# Altium footprint library SparkFun-Electromechanical.PCBLIB: 151 footprints (part 2 of 11)
Each footprint in its own frame and in the unit in brackets; x right, y up, seen from the top. Pads: shape width x height; smd on the part's side, far side on the other; paste and mask are expansions set on the pad; w line width, h text height; cw(c..) or ccw(c..) is an arc to the next point about the centre after c.
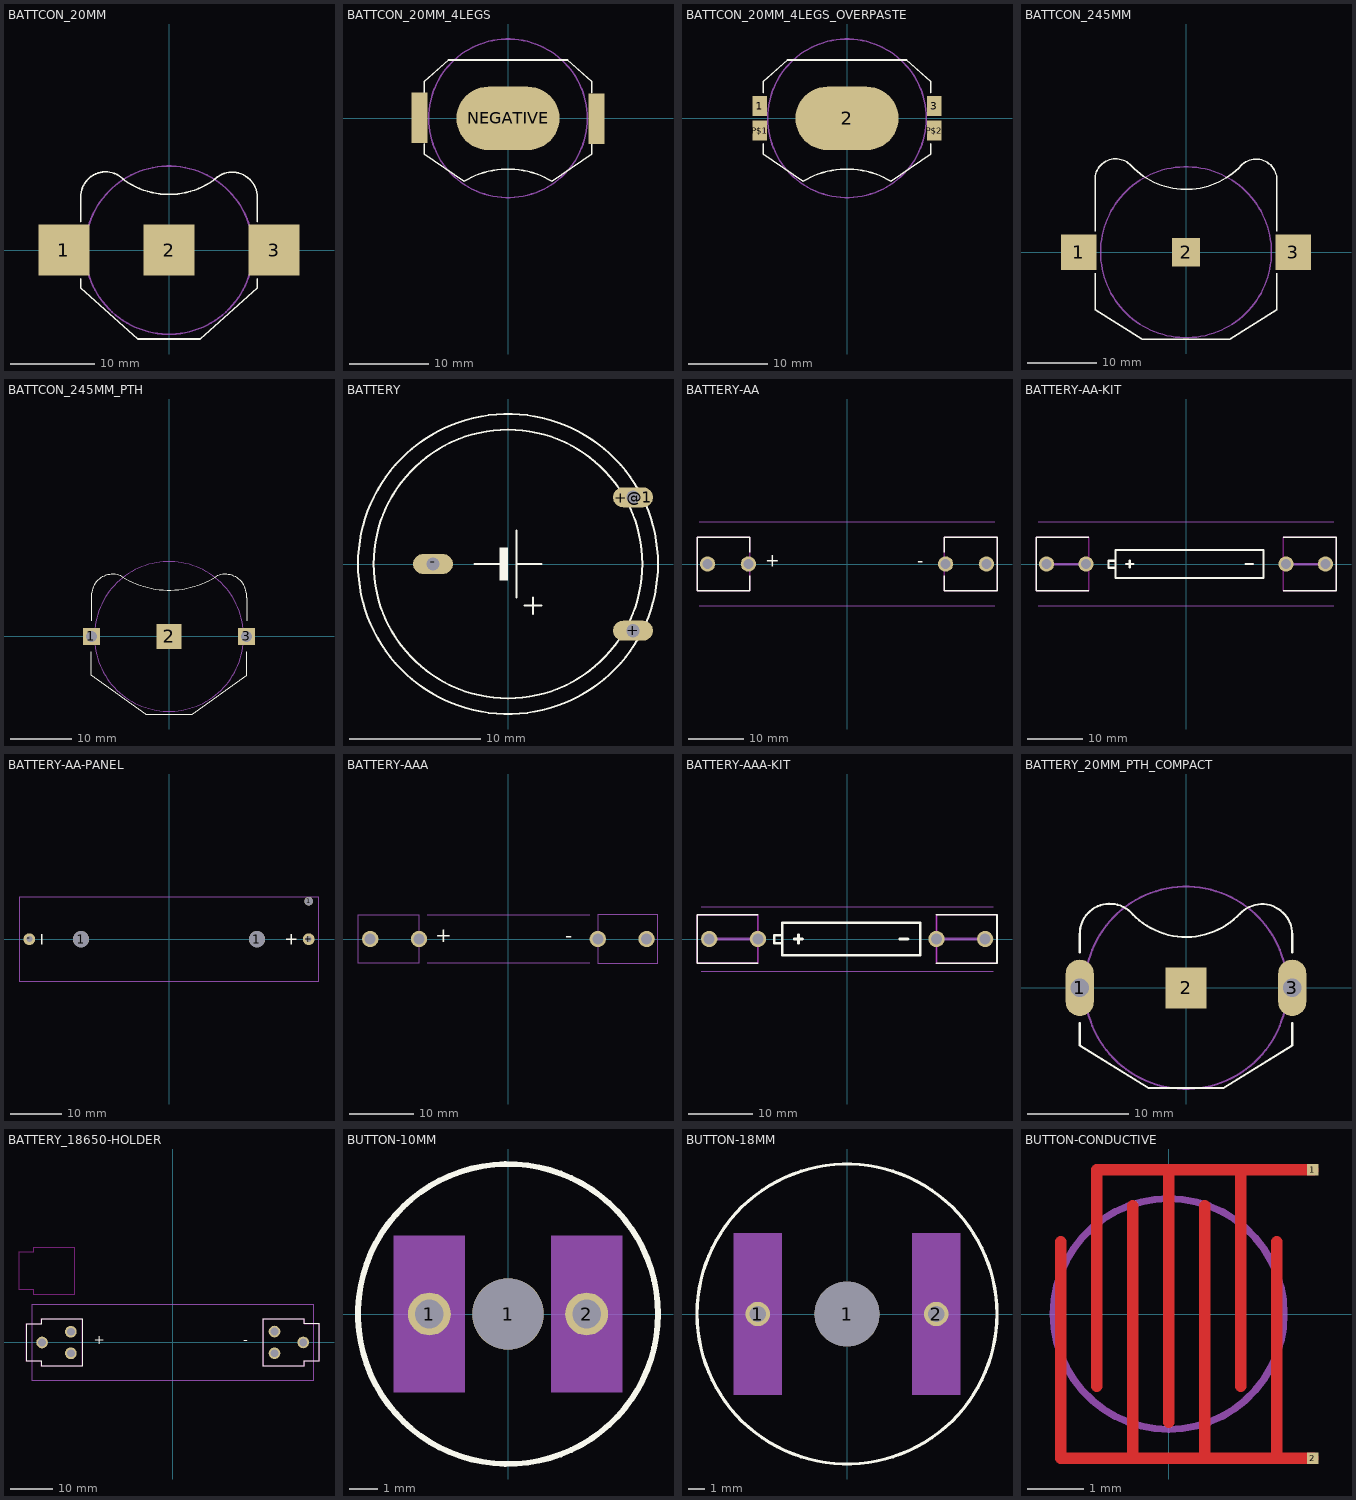
[diagram p1: the footprints below, top view; thin cyan lines are the x and y axes]

## BATTCON_20MM [mil]
pads (3):
  rect 238.98x238.98 smd: 1(-492.13,0) 2(0,0) 3(492.13,0)
Top Overlay:
  lines w8: -413.39,-133.86 -413.39,-177.17 -145.67,-416.14 145.67,-416.14 413.39,-177.17 413.39,-133.86 ; -413.39,133.86 -413.39,248.03 cw(c-296.55,249.77) -208.66,326.77 ccw(c0,624.77) 208.66,326.77 cw(c295.52,247.08) 413.39,248.03 413.39,133.86
Mechanical 16:
  circle w8: c0,0 r393.7

## BATTCON_20MM_4LEGS [mil]
pads (5):
  rrect100% 511.81x314.96 smd: NEGATIVE(0,0)
  rect 80x125 smd: POSITIVE@1(-440,65) POSITIVE@2(-440,-60) POSITIVE@3(440,60) POSITIVE@4(440,-65)
Top Overlay:
  lines w8: -415.35,-125.98 -415.35,-179.13 -218.5,-312.99 cw(c0,-673.66) 218.5,-312.99 415.35,-179.13 415.35,-125.98 ; -415.35,125.98 -415.35,183.07 -295.28,289.37 295.28,289.37 415.35,183.07 415.35,125.98
Top Paste:
  rectangle: -78.74,-78.74 78.74,78.74
  rectangle: -530,-135 -390,145
  rectangle: 390,-140 530,140
Mechanical 16:
  circle w8: c0,0 r393.7
  lines w8: -450.79,-100.39 -415.35,-100.39 -415.35,-21.65 -450.79,-21.65 -450.79,-100.39 ; -450.79,21.65 -415.35,21.65 -415.35,100.39 -450.79,100.39 -450.79,21.65 ; 415.35,-100.39 415.35,-21.65 450.79,-21.65 450.79,-100.39 415.35,-100.39 ; 415.35,21.65 415.35,100.39 450.79,100.39 450.79,21.65 415.35,21.65

## BATTCON_20MM_4LEGS_OVERPASTE [mil]
pads (5):
  rect 70x100 smd: 1(-433.07,61.02) 3(433.07,61.02) P$1(-433.07,-61.02) P$2(433.07,-61.02)
  rrect100% 511.81x314.96 smd: 2(0,0)
Top Overlay:
  lines w8: -415.35,-125.98 -415.35,-179.13 -218.5,-312.99 cw(c0,-673.66) 218.5,-312.99 415.35,-179.13 415.35,-125.98 ; -415.35,125.98 -415.35,183.07 -295.28,289.37 295.28,289.37 415.35,183.07 415.35,125.98
Top Paste:
  rectangle: -78.74,-78.74 78.74,78.74
  rectangle: -550,-120 -390,120
  rectangle: 390,-120 550,120
Mechanical 16:
  circle w8: c0,0 r393.7
  lines w8: -450.79,-100.39 -415.35,-100.39 -415.35,-21.65 -450.79,-21.65 -450.79,-100.39 ; -450.79,21.65 -415.35,21.65 -415.35,100.39 -450.79,100.39 -450.79,21.65 ; 415.35,-100.39 415.35,-21.65 450.79,-21.65 450.79,-100.39 415.35,-100.39 ; 415.35,21.65 415.35,100.39 450.79,100.39 450.79,21.65 415.35,21.65

## BATTCON_245MM [mil]
pads (3):
  rect 200x200 smd: 1(-605,0) 3(605,0)
  rect 160x160 smd: 2(0,0)
Top Overlay:
  lines w8: -513.39,-118.11 -513.39,-324.41 -245.67,-489.76 245.67,-489.76 513.39,-324.41 513.39,-118.11 ; -513.39,118.11 -513.39,408.66 cw(c-396.55,410.4) -308.66,487.4 ccw(c0.13,778.87) 312.6,491.34 ; 308.66,487.4 cw(c395.52,407.71) 513.39,408.66 513.39,118.11
Mechanical 16:
  circle w8: c0,0 r482.28

## BATTCON_245MM_PTH [mil]
pads (3):
  rect 109.5x109.5 hole 73: 1(-500,0) 3(500,0)
  rect 160x160 smd: 2(0,0)
Top Overlay:
  lines w8: -500,-100 -500,-250 -150,-500 150,-500 500,-250 500,-100 ; -500,100 -500,250 cw(c-363.94,264.08) -300,385 ccw(c0,867.1) 300,385 cw(c363.94,264.07) 500,250 500,100
Mechanical 16:
  circle w8: c0,0 r482.28

## BATTERY [mil]
pads (3):
  oval 120x60 hole 40: +(375,-200) +@1(375,200) -(-225,0)
Top Overlay:
  circle w6: c0,0 r450
  circle w6: c0,0 r403
  rectangle: -25,-50 0,50
  lines w6: -100,0 -25,0 ; 25,-100 25,0 ; 25,100 25,0 ; 50,-125 100,-125 ; 75,-150 75,-100 ; 100,0 25,0

## BATTERY-AA [mil]
pads (4):
  round 109.5 hole 73: GND@1(990,0) GND@2(700,0) PWR@1(-990,0) PWR@2(-700,0)
Top Layer keep-out:
  lines w10: -1065,-190 -690,-190 -690,190 -1065,190 -1065,-190 ; 690,-190 1065,-190 1065,190 690,190 690,-190
Top Overlay:
  lines w10: -690,-85 -690,-190 -1065,-190 -1065,190 -690,190 -690,85 ; 690,-85 690,-190 1065,-190 1065,190 690,190 690,85
  text "+" at -580,-50 h155
  text "-" at 500,-50 h155
Mechanical 16:
  lines w5: -1050,-300 1050,-300 ; -1050,300 1050,300

## BATTERY-AA-KIT [mil]
pads (4):
  round 109.5 hole 73: GND@1(990,0) GND@2(710,0) PWR@1(-990,0) PWR@2(-710,0)
Top Layer keep-out:
  lines w10: -1065,-190 -690,-190 -690,190 -1065,190 -1065,-190 ; 690,-190 1065,-190 1065,190 690,190 690,-190
Top Overlay:
  lines w10: -690,-190 -1065,-190 -1065,190 -690,190 ; 690,-190 1065,-190 1065,190 690,190
  lines w16: -425,0 -375,0 ; -400,-25 -400,25 ; 425,0 475,0 ; -500,-27 -500,23 ; -500,-27 -500,-100 550,-100 550,100 -500,100 -500,23 ; -500,-27 -550,-27 -550,23 -500,23
Top Solder:
  region: 0,0 10,0 10,10 0,10
  region: 0,0 10,0 10,10 0,10
  region: 0,0 10,0 10,10 0,10
  region: 0,0 10,0 10,10 0,10
Bottom Solder:
  region: 0,0 10,0 10,10 0,10
  region: 0,0 10,0 10,10 0,10
  region: 0,0 10,0 10,10 0,10
  region: 0,0 10,0 10,10 0,10
Mechanical 14:
  lines w16: -945.5,-1.9 -744.6,-1.8 ; 744.5,-1.9 945.4,-1.8
Mechanical 16:
  lines w5: -1050,-300 1050,-300 ; -1050,300 1050,300

## BATTERY-AA-PANEL [mil]
pads (5):
  round 125.2 hole 125.2: 1(-679.92,0) 1(679.92,0)
  round 66.93 hole 66.93: 1(1079.92,294.09)
  round 90.55 hole 46.06: +(1079.92,0) -(-1079.92,0)
Top Overlay:
  lines w9.84: -984.25,-39.37 -984.25,39.37 ; 905.51,0 984.25,0 ; 944.88,-39.37 944.88,39.37
Mechanical 14:
  text "(layout parts on top layer)" at -236.22,275.59 h37.2
Mechanical 16:
  lines w5: -1159.84,-325 -1159.84,325 1159.84,325 1159.84,-325 -1159.84,-325

## BATTERY-AAA [mil]
pads (4):
  round 100.5 hole 67: GND@1(850,0) GND@2(550,0) PWR@1(-850,0) PWR@2(-550,0)
Top Overlay:
  text "+" at -450,-50 h155
  text "-" at 350,-50 h155
Mechanical 16:
  lines w5: -500,-150 500,-150 ; -500,150 500,150 ; -925,-150 -550,-150 -550,150 -925,150 -925,-150 ; 550,-150 550,150 920,150 920,-150 550,-150

## BATTERY-AAA-KIT [mil]
pads (4):
  round 100.5 hole 67: GND@1(850,0) GND@2(550,0) PWR@1(-850,0) PWR@2(-550,0)
Top Layer keep-out:
  lines w10: -923,-150 -550,-150 -550,150 -923,150 -923,-150 ; 550,-150 923,-150 923,150 550,150 550,-150
Top Overlay:
  lines w10: -550,-150 -923,-150 -923,150 -550,150 ; 550,-150 923,-150 923,150 550,150
  lines w16: -325,0 -275,0 ; -300,-25 -300,25 ; 325,0 375,0 ; -400,-27 -400,23 ; -400,-27 -400,-100 450,-100 450,100 -400,100 -400,23 ; -400,-27 -450,-27 -450,23 -400,23
Top Solder:
  circle w35: c550,0 r15.81
  circle w35: c850,0 r15.81
  circle w35: c-550,0 r15.81
  circle w35: c-850,0 r15.81
Bottom Solder:
  circle w70: c550,0 r15.81
  circle w70: c850,0 r15.81
  circle w70: c-550,0 r15.81
  circle w70: c-850,0 r15.81
Mechanical 14:
  lines w16: -850,0 -550,0 ; 550,0 850,0
Mechanical 16:
  lines w5: -900,-200 900,-200 ; -900,200 900,200 ; -925,-150 -550,-150 -550,150 -925,150 -925,-150 ; 550,-150 550,150 923,150 923,-150 550,-150

## BATTERY_20MM_PTH_COMPACT [mil]
pads (3):
  oval 109.5x219 hole 73: 1(-413.39,0) 3(413.39,0)
  rect 160x160 smd: 2(0,0)
Top Overlay:
  lines w8: -413.39,-137.8 -413.39,-224.41 -145.67,-389.76 145.67,-389.76 413.39,-224.41 413.39,-137.8 ; -413.39,137.8 -413.39,208.66 cw(c-296.55,210.4) -208.66,287.4 ccw(c0.13,485.68) 212.6,291.34 ; 208.66,287.4 cw(c295.52,207.71) 413.39,208.66 413.39,137.8
Mechanical 16:
  circle w8: c0,0 r393.7

## BATTERY_18650-HOLDER [mil]
pads (6):
  round 108 hole 72: GND@1(1205.83,0.39) GND@2(940.16,100.39) GND@3(940.16,-99.61) PWR@1(-1205.83,-0.39) PWR@2(-940.16,99.61) PWR@3(-940.16,-100.39)
Top Layer keep-out:
  lines w8: -1419.09,486.02 -1282.09,486.02 -1282.09,442.02 -906.69,442.02 -906.69,880.02 -1282.09,880.02 -1282.09,836.02 -1419.09,836.02 -1419.09,486.02 ; -1351.37,-175 -1214.37,-175 -1214.37,-219 -839.37,-219 -839.37,219 -1214.37,219 -1214.37,175 -1351.37,175 -1351.37,-175 ; 835.83,-218.61 835.83,219.39 1211.22,219.39 1211.22,175.39 1348.22,175.39 1348.22,-174.61 1211.22,-174.61 1211.22,-218.61 835.83,-218.61 ; 839.37,-219 839.37,219 1214.37,219 1214.37,175 1351.37,175 1351.37,-175 1214.37,-175 1214.37,-219 839.37,-219
Top Overlay:
  lines w8: -1348.22,-175.39 -1211.22,-175.39 -1211.22,-219.39 -835.83,-219.39 -835.83,218.61 -1211.22,218.61 -1211.22,174.61 -1348.22,174.61 -1348.22,-175.39 ; 835.83,-218.61 835.83,219.39 1211.22,219.39 1211.22,175.39 1348.22,175.39 1348.22,-174.61 1211.22,-174.61 1211.22,-218.61 835.83,-218.61
  text "+" at -730,-50 h155
  text "-" at 650,-50 h155
Mechanical 16:
  lines w5: -1299.21,-354.33 1299.21,-354.33 1299.21,354.33 -1299.21,354.33 -1299.21,-354.33

## BUTTON-10MM [mm]
pads (3):
  round 1.5 hole 1: 1(-2.75,0) 2(2.75,0)
  round 2.5 hole 2.5: 1(0,0)
Top Overlay:
  circle w0.203: c0,0 r5.25
Mechanical 11:
  rectangle: -3.25,-2 -2.25,2
  rectangle: 2.25,-2 3.25,2
Mechanical 18:
  rectangle: -4,-2.75 -1.5,2.75
  rectangle: 1.5,-2.75 4,2.75

## BUTTON-18MM [mm]
pads (3):
  round 1.5 hole 1: 1(-5.5,0) 2(5.5,0)
  round 4 hole 4: 1(0,0)
Top Overlay:
  circle w0.203: c0,0 r9.25
Mechanical 11:
  rectangle: -6,-3.75 -5,3.75
  rectangle: 5,-3.75 6,3.75
Mechanical 18:
  rectangle: -7,-5 -4,5
  rectangle: 4,-5 7,5

## BUTTON-CONDUCTIVE [mil]
pads (2):
  rect 8x8 smd: 1(100,100) 2(100,-100)
Top Layer:
  lines w8: -75,50 -75,-100 100,-100 ; -50,-50 -50,100 100,100 ; -25,-100 -25,75 ; 0,-75 0,100 ; 25,-100 25,75 ; 50,-50 50,100 ; 75,-100 75,50
Top Solder:
  circle w78.74: c0,0 r39.37
Mechanical 16:
  circle w5: c0,0 r80